# EAGLE library part TPS61043-LED_DRIVER (library boydcircuits)
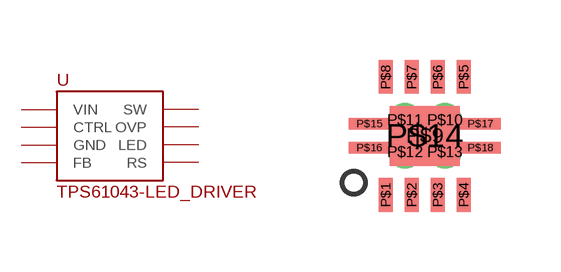
[diagram p1: symbol with the pads of VSON-8; footprint VSON-8]

Designator prefix U

## TPS61043-LED_DRIVER  [VSON-8]
P$1  LED
P$2  RS
P$3  VIN
P$4  FB
P$5  CTRL
P$6  GND
P$7  OVP
P$8  SW
P$9  GND
P$10  GND
P$11  GND
P$12  GND
P$13  GND
P$14  GND
P$15  GND
P$16  GND
P$17  GND
P$18  GND

## Footprint VSON-8 (pad centres in mm)
smd 0.35 x 0.85: P$1 0,0; P$2 0.65,0; P$3 1.3,0; P$4 1.95,0; P$5 1.95,2.95; P$6 1.3,2.95; P$7 0.65,2.95; P$8 0,2.95
drill 0.33 pad 0.406: P$9 0.975,1.475; P$10 1.475,1.875; P$11 0.475,1.875; P$12 0.475,1.075; P$13 1.475,1.075
smd 1.75 x 1.5: P$14 0.975,1.475
smd 1.025 x 0.28: P$15 -0.413,1.775; P$16 -0.413,1.175; P$17 2.364,1.775; P$18 2.364,1.175